# EAGLE library part BASICATOMPRO28 (library basicmicro)
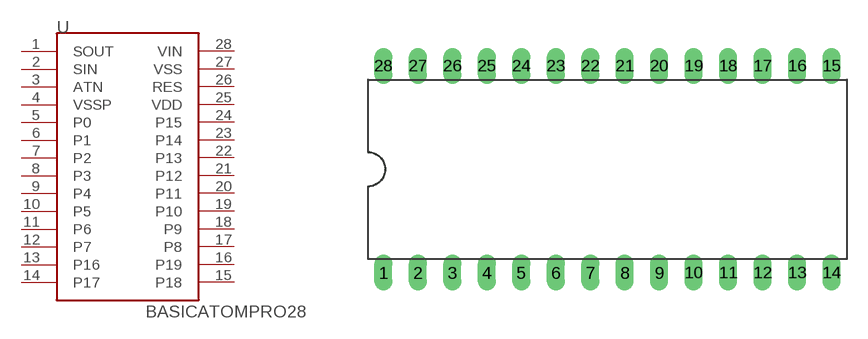
[diagram p1: symbol with the pads of DIP28; footprint DIP28]

Designator prefix -

## BASICATOMPRO28  [DIP28]
1  SOUT
2  SIN
3  ATN
4  VSSP
5  P0
6  P1
7  P2
8  P3
9  P4
10  P5
11  P6
12  P7
13  P16
14  P17
15  P18
16  P19
17  P8
18  P9
19  P10
20  P11
21  P12
22  P13
23  P14
24  P15
25  VDD  pwr
26  RES  pwr
27  VSS  pwr
28  VIN  pwr

## Footprint DIP28 (pad centres in mm)
drill 0.813 long: 1 -16.51,-7.62; 2 -13.97,-7.62; 3 -11.43,-7.62; 4 -8.89,-7.62; 5 -6.35,-7.62; 6 -3.81,-7.62; 7 -1.27,-7.62; 8 1.27,-7.62; 9 3.81,-7.62; 10 6.35,-7.62; 11 8.89,-7.62; 12 11.43,-7.62; 13 13.97,-7.62; 14 16.51,-7.62; 15 16.51,7.62; 16 13.97,7.62; 17 11.43,7.62; 18 8.89,7.62; 19 6.35,7.62; 20 3.81,7.62; 21 1.27,7.62; 22 -1.27,7.62; 23 -3.81,7.62; 24 -6.35,7.62; 25 -8.89,7.62; 26 -11.43,7.62; 27 -13.97,7.62; 28 -16.51,7.62